# Altium footprint library General.PcbLib: 15 footprints
Each footprint in its own frame and in the unit in brackets; x right, y up, seen from the top. Pads: shape width x height; smd on the part's side, far side on the other; paste and mask are expansions set on the pad; w line width, h text height; cw(c..) or ccw(c..) is an arc to the next point about the centre after c.
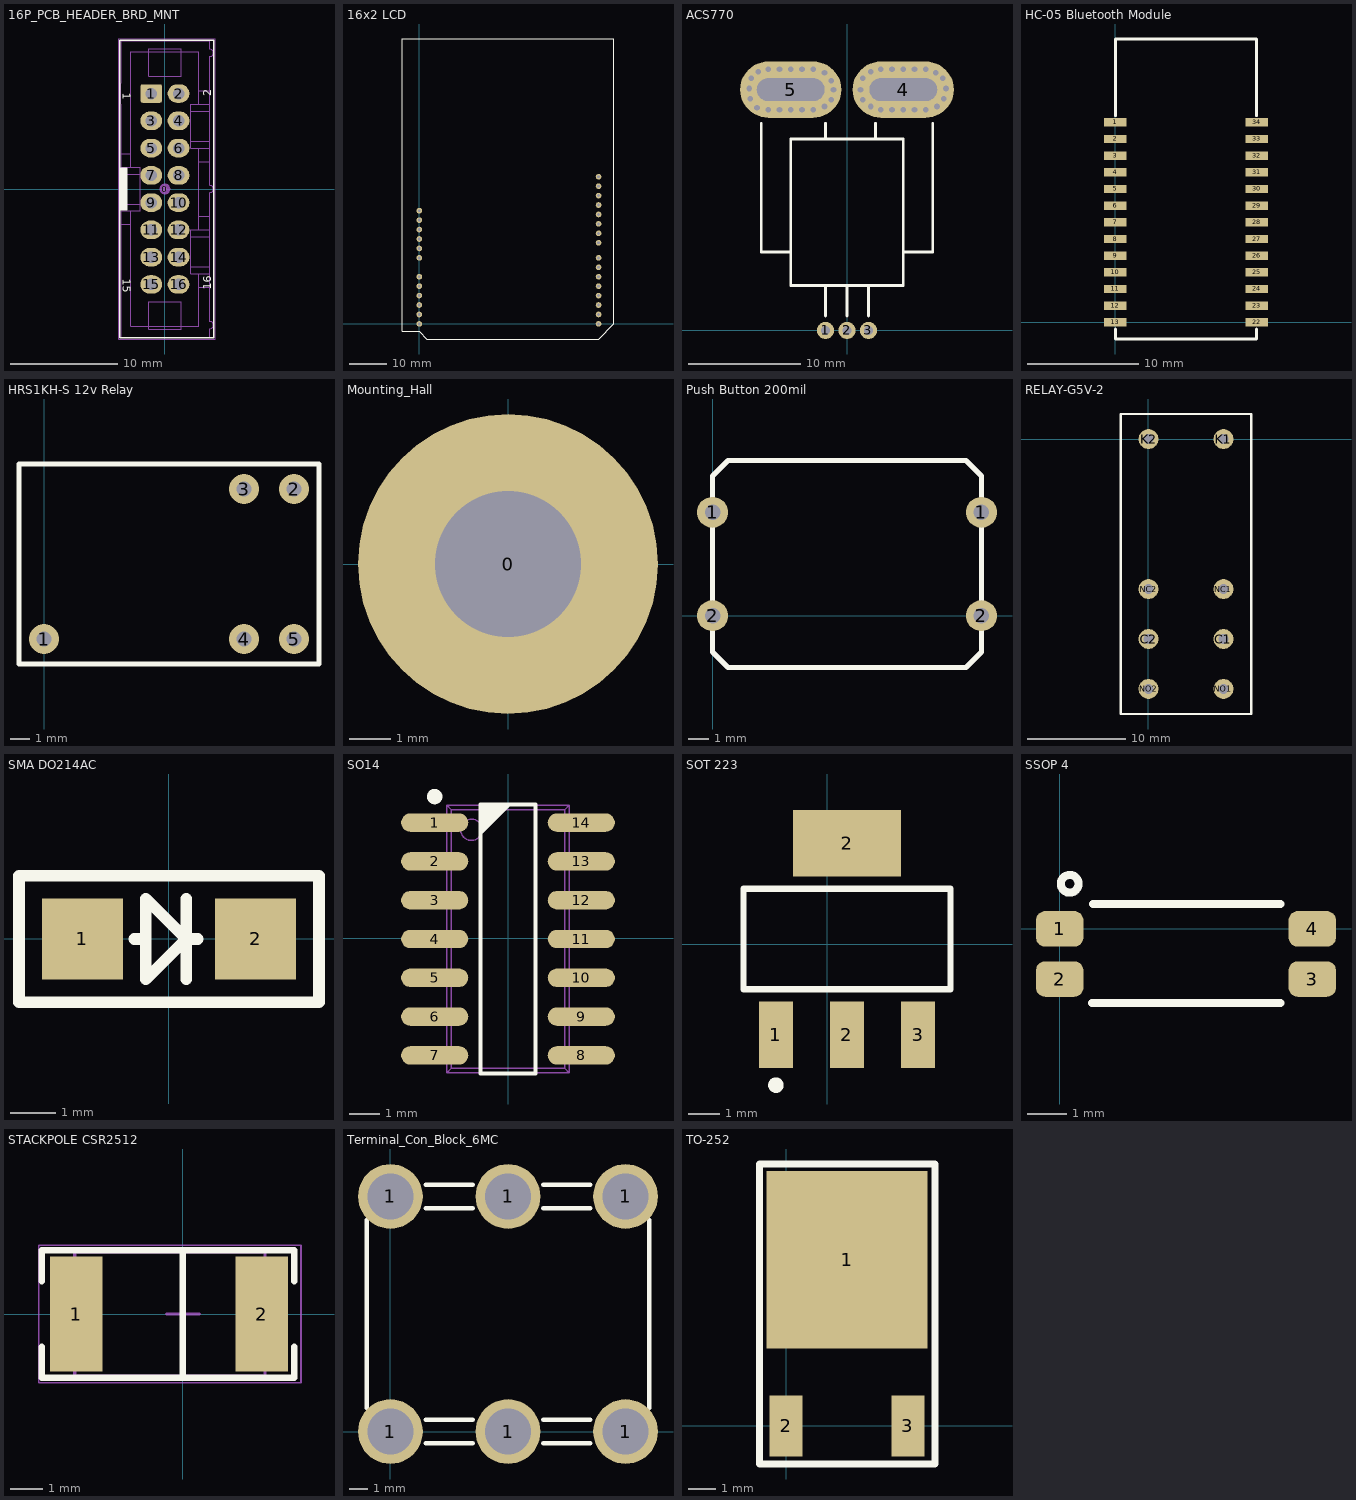
[diagram p0: the footprints below, top view; thin cyan lines are the x and y axes]

## 16P_PCB_HEADER_BRD_MNT [mil] "HEADER BRD MNT 16POS 2.54MM"
height 390
pads (17):
  round 40 on Mech15: 0(0,0)
  rrect25% 80x68 hole 42: 1(-50,350)
  oval 80x68 hole 42: 2(50,350) 3(-50,250) 4(50,250) 5(-50,150) 6(50,150) 7(-50,50) 8(50,50) 9(-50,-50) 10(50,-50) 11(-50,-150) 12(50,-150) 13(-50,-250) 14(50,-250) 15(-50,-350) 16(50,-350)
Top Overlay:
  rectangle: -165,-78.74 -137.8,78.74
  lines w5: -165,-545 180,-545 180,545 -165,545 -165,-545
  text "15" at -155,-329 h30
  text "16" at 170,-370.28 h30
  text "1" at -155,353.57 h30
  text "2" at 170,340 h30
Mechanical 13:
  drawing of 242 lines, arcs and shapes, not listed
Mechanical 15:
  lines w3: -170,-550 185,-550 185,550 -170,550 -170,-550
3D body "D2516-6002-AR (16P).STEP": height 390, standoff -120, extent -161.99,-543.99 178.01,544.01

## 16x2 LCD [mil]
pads (28):
  round 60 hole 30: 1(0,1200) 2(0,1100) 3(0,1000) 4(0,900) 5(0,800) 6(0,700) 7(0,500) 8(0,400) 9(0,300) 10(0,200) 11(0,100) 12(0,0) 13(1900,0) 14(1900,100) 15(1900,200) 16(1900,300) 17(1900,400) 18(1900,500) 19(1900,600) 20(1900,700) 21(1900,860) 22(1900,960) 23(1900,1060) 24(1900,1160) 25(1900,1260) 26(1900,1360) 27(1900,1460) 28(1900,1560)
Top Overlay:
  lines w10: -180,-80 0,-80 80,-160 1900,-160 2060,0 2060,3020 1880,3020 -180,3020 -180,-80
3D body: height 787.4, standoff 393.7, extent -180,-160 2060,3020
3D body: height 393.7, standoff 0, extent 1850,800 1950,1600
3D body: height 393.7, standoff 0, extent 1850,-50 1950,750
3D body: height 393.7, standoff 0, extent -50,650 50,1250
3D body: height 393.7, standoff 0, extent -50,-50 50,550

## ACS770 [mm]
pads (5):
  round 1.524 hole 0.8: 1(-1.91,0) 2(0,0) 3(1.91,0)
  oval 9x5 hole 2 slot 6 at 0 deg: 4(5,21.4) 5(-5,21.4)
via -7.9,23 diameter 1 hole 0.5
via -8.5,22.4 diameter 1 hole 0.5
via -8,19.8 diameter 1 hole 0.5
via -8.6,20.6 diameter 1 hole 0.5
via -2,19.9 diameter 1 hole 0.5
via -1.4,20.5 diameter 1 hole 0.5
via -1.4,22.2 diameter 1 hole 0.5
via -2,22.9 diameter 1 hole 0.5
via -8.7,21.5 diameter 1 hole 0.5
via -1.2,21.4 diameter 1 hole 0.5
via 2.1,23 diameter 1 hole 0.5
via 1.4,22.4 diameter 1 hole 0.5
via 2.1,19.9 diameter 1 hole 0.5
via 1.4,20.5 diameter 1 hole 0.5
via 1.2,21.4 diameter 1 hole 0.5
via -3,23.2 diameter 1 hole 0.5
via -4,23.2 diameter 1 hole 0.5
via -5,23.2 diameter 1 hole 0.5
via -6,23.2 diameter 1 hole 0.5
via -7,23.2 diameter 1 hole 0.5
via -7,19.6 diameter 1 hole 0.5
via -6,19.6 diameter 1 hole 0.5
via -5,19.6 diameter 1 hole 0.5
via -4,19.6 diameter 1 hole 0.5
via -3,19.6 diameter 1 hole 0.5
via 7,19.6 diameter 1 hole 0.5
via 6,19.6 diameter 1 hole 0.5
via 5,19.6 diameter 1 hole 0.5
via 4,19.6 diameter 1 hole 0.5
via 3,19.6 diameter 1 hole 0.5
via 3,23.2 diameter 1 hole 0.5
via 4,23.2 diameter 1 hole 0.5
via 7,23.2 diameter 1 hole 0.5
via 6,23.2 diameter 1 hole 0.5
via 5,23.2 diameter 1 hole 0.5
via 7.9,22.9 diameter 1 hole 0.5
via 8.5,22.4 diameter 1 hole 0.5
via 8.8,21.5 diameter 1 hole 0.5
via 8.6,20.6 diameter 1 hole 0.5
via 8,19.9 diameter 1 hole 0.5
Top Overlay:
  lines w0.254: -7.62,18.415 -7.62,6.985 -5,6.985 ; -1.905,1.27 -1.905,3.81 ; -1.905,17 -1.905,18.415 ; 0,1.27 0,3.81 ; 1.905,1.27 1.905,3.81 ; 2.54,17 2.54,18.415 ; 5.08,6.985 7.62,6.985 7.62,18.415 ; -5,4 -5,17 5,17 5,4 -5,4
3D body "User Library-ACS754SCB-200-PFF.STEP": height 7.5, standoff -3.01, extent -7,-0.675 7,22.147

## HC-05 Bluetooth Module [mil]
pads (26):
  rect 80x30 smd: 1(0,708.66) 2(0,649.61) 3(0,590.55) 4(0,531.5) 5(0,472.44) 6(0,413.39) 7(0,354.33) 8(0,295.28) 9(0,236.22) 10(0,177.17) 11(0,118.11) 12(0,59.06) 13(0,0) 22(500,0) 23(500,59.06) 24(500,118.11) 25(500,177.17) 26(500,236.22) 27(500,295.28) 28(500,354.33) 29(500,413.39) 30(500,472.44) 31(500,531.5) 32(500,590.55) 33(500,649.61) 34(500,708.66)
Top Overlay:
  lines w10: 0,-23.62 0,-59.06 500,-59.06 500,-23.62 ; 0,732.28 0,1003.94 500,1003.94 500,732.28

## HRS1KH-S 12v Relay [mil]
height 393.7
pads (5):
  round 60 hole 30: 1(0,-500) 2(500,-200) 3(400,-200) 4(400,-500) 5(500,-500)
Top Overlay:
  lines w10: -50,-550 550,-550 550,-150 -50,-150 -50,-550
3D body: height 393.7, standoff 0, extent -34,-534 534,-166

## Mounting_Hall [mm]
pads (1):
  round 7.2 hole 3.5: 0(0,0)

## Push Button 200mil [mil]
pads (4):
  round 60 hole 30: 1(0,200) 1(520,200) 2(0,0) 2(520,0)
Top Overlay:
  lines w10: 0,-30 0,-70 30,-100 490,-100 520,-70 ; 0,30 0,170 ; 0,230 0,270 30,300 490,300 520,270 520,230 ; 520,-30 520,-70 ; 520,170 520,-70

## RELAY-G5V-2 [mil]
height 43.31
pads (8):
  round 80 hole 40: C1(300.2,-800.2) C2(0,-800.2) K1(300.2,0) K2(0,0) NC1(300.2,-600.39) NC2(0,-600.39) NO1(300.2,-1000) NO2(0,-1000)
Top Overlay:
  lines w10: 410.43,0 410.43,100.39 ; 410.43,100.39 -110.24,100.39 -110.24,-1100.39 410.43,-1100.39 410.43,100.39
3D body: height 393.7, standoff 0, extent -100,-1090 400,90

## SMA DO214AC [mil]
pads (2):
  rect 70x70 smd: 1(-75,0) 2(75,0)
Top Overlay:
  lines w10: -30,0 -20,0 ; 15,-35 15,0 ; 15,35 15,0 ; 25,0 15,0 ; 15,0 -20,35 -20,-35 15,0 ; -130,-55 -130,0 -130,55 130,55 130,-55 -130,-55
3D body: height 78.74, standoff 0, extent -95,-45 95,45

## SO14 [mm]
height 1.6
pads (14):
  oval 2.2x0.6 smd: 1(-2.409,3.778) 2(-2.409,2.508) 3(-2.409,1.238) 4(-2.409,-0.032) 5(-2.409,-1.302) 6(-2.409,-2.572) 7(-2.409,-3.842) 8(2.391,-3.842) 9(2.391,-2.572) 10(2.391,-1.302) 11(2.391,-0.032) 12(2.391,1.238) 13(2.391,2.508) 14(2.391,3.778)
Top Overlay:
  circle w0.25: c-2.409,4.628 r0.125
  region: -0.909,4.368 0.091,4.368 -0.909,3.368
  lines w0.127: -0.909,-4.432 0.891,-4.432 0.891,4.368 -0.909,4.368 -0.909,-4.432
Mechanical 13:
  circle w0.05: c-1.209,3.543 r0.35
  lines w0.05: -2.64,-4.052 -2.64,-3.632 ; -2.64,-2.782 -2.64,-2.362 ; -2.64,-1.512 -2.64,-1.092 ; -2.64,-0.242 -2.64,0.178 ; -2.64,1.028 -2.64,1.448 ; -2.64,2.298 -2.64,2.718 ; -2.64,3.568 -2.64,3.988 ; -2.552,-4.052 -2.552,-3.632 ; -2.552,-2.782 -2.552,-2.362 ; -2.552,-1.512 -2.552,-1.092 ; -2.552,-0.242 -2.552,0.178 ; -2.552,1.028 -2.552,1.448 ; -2.552,2.298 -2.552,2.718 ; -2.552,3.568 -2.552,3.988 ; -2.412,-4.052 -2.412,-3.632 ; -2.412,-2.782 -2.412,-2.362 ; -2.412,-1.512 -2.412,-1.092 ; -2.412,-0.242 -2.412,0.178 ; -2.412,1.028 -2.412,1.448 ; -2.412,2.298 -2.412,2.718 ; -2.412,3.568 -2.412,3.988 ; -2.122,-4.052 -2.122,-3.632 ; -2.122,-2.782 -2.122,-2.362 ; -2.122,-1.512 -2.122,-1.092 ; -2.122,-0.242 -2.122,0.178 ; -2.122,1.028 -2.122,1.448 ; -2.122,2.298 -2.122,2.718 ; -2.122,3.568 -2.122,3.988 ; -2.009,-4.052 -3.009,-4.052 -3.009,-3.632 -2.009,-3.632 ; -2.009,-2.782 -3.009,-2.782 -3.009,-2.362 -2.009,-2.362 ; -2.009,-1.512 -3.009,-1.512 -3.009,-1.092 -2.009,-1.092 ; -2.009,-0.242 -3.009,-0.242 -3.009,0.178 -2.009,0.178 ; -2.009,1.028 -3.009,1.028 -3.009,1.448 -2.009,1.448 ; -2.009,2.298 -3.009,2.298 -3.009,2.718 -2.009,2.718 ; -2.009,3.568 -3.009,3.568 -3.009,3.988 -2.009,3.988 ; 1.991,-4.052 2.991,-4.052 2.991,-3.632 1.991,-3.632 ; 1.991,-2.782 2.991,-2.782 2.991,-2.362 1.991,-2.362 ; 1.991,-1.512 2.991,-1.512 2.991,-1.092 1.991,-1.092 ; 1.991,-0.242 2.991,-0.242 2.991,0.178 1.991,0.178 ; 1.991,1.028 2.991,1.028 2.991,1.448 1.991,1.448 ; 1.991,2.298 2.991,2.298 2.991,2.718 1.991,2.718 ; 1.991,3.568 2.991,3.568 2.991,3.988 1.991,3.988 ; 2.104,-4.052 2.104,-3.632 ; 2.104,-2.782 2.104,-2.362 ; 2.104,-1.512 2.104,-1.092 ; 2.104,-0.242 2.104,0.178 ; 2.104,1.028 2.104,1.448 ; 2.104,2.298 2.104,2.718 ; 2.104,3.568 2.104,3.988 ; 2.394,-4.052 2.394,-3.632 ; 2.394,-2.782 2.394,-2.362 ; 2.394,-1.512 2.394,-1.092 ; 2.394,-0.242 2.394,0.178 ; 2.394,1.028 2.394,1.448 ; 2.394,2.298 2.394,2.718 ; 2.394,3.568 2.394,3.988 ; 2.534,-4.052 2.534,-3.632 ; 2.534,-2.782 2.534,-2.362 ; 2.534,-1.512 2.534,-1.092 ; 2.534,-0.242 2.534,0.178 ; 2.534,1.028 2.534,1.448 ; 2.534,2.298 2.534,2.718 ; 2.534,3.568 2.534,3.988 ; 2.622,-4.052 2.622,-3.632 ; 2.622,-2.782 2.622,-2.362 ; 2.622,-1.512 2.622,-1.092 ; 2.622,-0.242 2.622,0.178 ; 2.622,1.028 2.622,1.448 ; 2.622,2.298 2.622,2.718 ; 2.622,3.568 2.622,3.988 ; -2.009,-4.407 -2.009,4.343 ; -2.009,-4.407 -1.86,-4.258 ; -2.009,-4.407 1.991,-4.407 ; -2.009,4.343 -1.86,4.194 ; -2.009,4.343 1.991,4.343 ; -1.86,-4.258 1.842,-4.258 ; -1.86,-4.258 -1.86,4.194 ; -1.86,4.194 1.842,4.194 ; 1.842,-4.258 1.991,-4.407 ; 1.842,-4.258 1.842,4.194 ; 1.842,4.194 1.991,4.343 ; 1.991,-4.407 1.991,4.343
3D body "SOIC127P600X175-14AN.stp": height 1.75, standoff 0, extent -3.015,-4.357 2.997,4.293

## SOT 223 [mm] "Compatible with AMC1117"
height 1.65
pads (4):
  rect 1.1x2.15 smd: 1(-1.66,-2.938) 2(0.64,-2.938) 3(2.94,-2.938)
  rect 3.5x2.15 smd: 2(0.64,3.262)
Top Overlay:
  circle w0.25: c-1.66,-4.563 r0.125
  lines w0.2: -2.71,-1.463 -2.71,1.787 3.99,1.787 3.99,-1.463 -2.71,-1.463
3D body "SOT-223.STEP": height 1.65, standoff -0.02, extent -2.615,-3.339 3.885,3.593

## SSOP 4 [mm]
pads (4):
  rrect50% 1.2x0.9 smd: 1(0,0) 2(0,-1.27) 3(6.4,-1.27) 4(6.4,0)
Top Overlay:
  circle w0.203: c0.254,1.143 r0.225
  lines w0.203: 0.813,-1.88 5.588,-1.88 ; 0.838,0.635 5.588,0.635
3D body "SSOP-4.STEP": height 2, standoff 0, extent -0.274,-2.032 6.726,0.668

## STACKPOLE CSR2512 [mm] "Chip Resistor, 2-Leads, Body 6.40x3.20mm, IPC Medium Density"
height 0.65
pads (2):
  rect 1.6x3.5 smd: 1(-3.25,0) 2(2.4,0)
Top Overlay:
  lines w0.2: -4.3,-1 -4.3,-1.95 3.4,-1.95 3.4,-1 ; -4.3,1 -4.3,1.95 3.4,1.95 3.4,1 ; 0,-1.8 0,1.8
Mechanical 13:
  lines w0.1: -3.3,-1.9 2.5,-1.9 2.5,1.9 -3.3,1.9 -3.3,-1.9
Mechanical 15:
  lines w0.05: -4.4,-2.1 3.6,-2.1 3.6,2.1 -4.4,2.1 -4.4,-2.1
  lines w0.1: -0.5,0 0.5,0 ; 0,-0.5 0,0.5
3D body "Stackpole CSR2512 Res.STEP": height 0.5, standoff 0, extent -3.656,-1.6 2.894,1.6

## Terminal_Con_Block_6MC [mm]
pads (6):
  round 3.5 hole 2.5: 1(0,0) 1(0,12.7) 1(6.35,0) 1(6.35,12.7) 1(12.7,0) 1(12.7,12.7)
Top Overlay:
  lines w0.254: -1.27,1.27 -1.27,11.43 ; 1.905,-0.635 4.445,-0.635 ; 1.905,0.635 4.445,0.635 ; 1.905,12.065 4.445,12.065 ; 1.905,13.335 4.445,13.335 ; 8.255,-0.635 10.795,-0.635 ; 8.255,0.635 10.795,0.635 ; 8.255,12.065 10.795,12.065 ; 8.255,13.335 10.795,13.335 ; 13.97,1.27 13.97,11.43
3D body: height 8.13, standoff 0, extent -1.27,-1.27 13.97,13.97

## TO-252 [mm]
pads (3):
  rect 5.8x6.4 smd: 1(2.2,6)
  rect 1.2x2.2 smd: 2(0,0) 3(4.4,0)
Top Overlay:
  lines w0.254: -0.95,-1.375 5.375,-1.375 5.375,9.45 -0.95,9.45 -0.95,-1.375